# Altium footprint library PCB.PCBLIB: 320 footprints (part 11 of 20)
Each footprint in its own frame and in the unit in brackets; x right, y up, seen from the top. Pads: shape width x height; smd on the part's side, far side on the other; paste and mask are expansions set on the pad; w line width, h text height; cw(c..) or ccw(c..) is an arc to the next point about the centre after c.
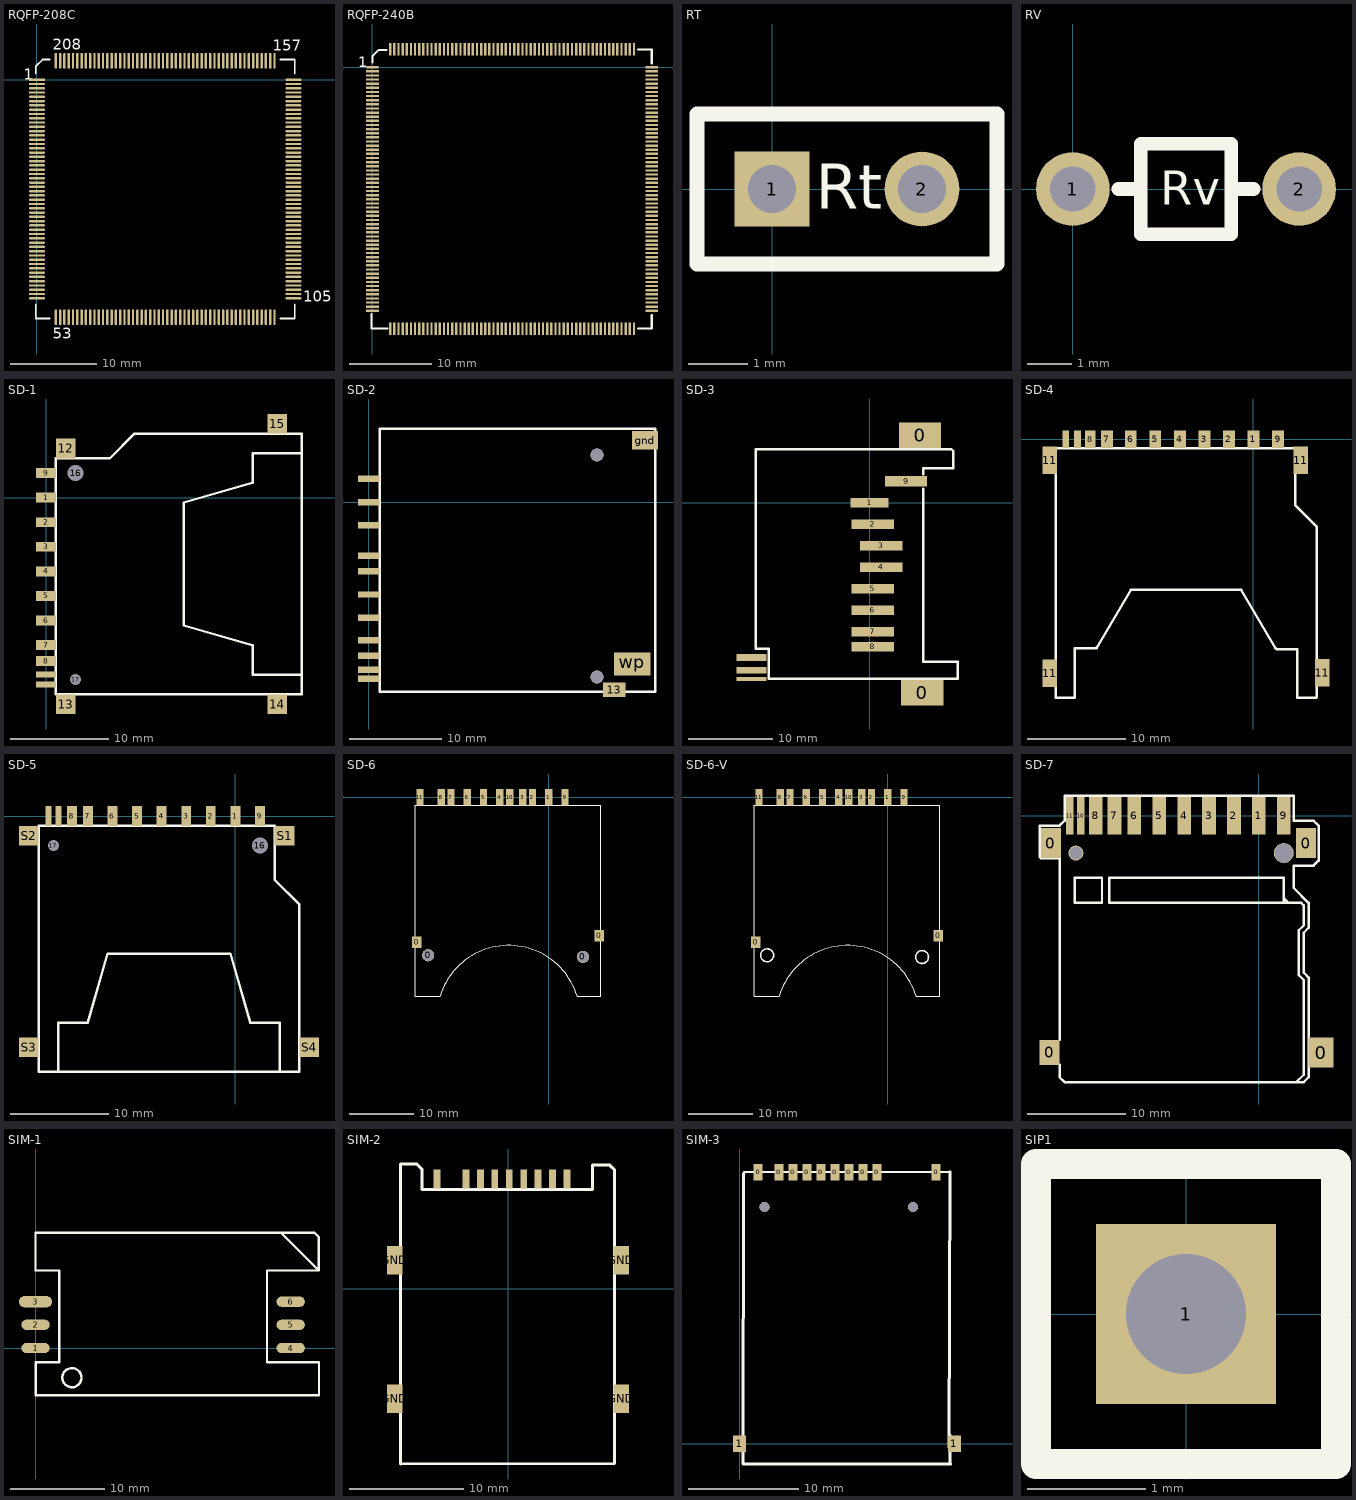
[diagram p10: the footprints below, top view; thin cyan lines are the x and y axes]

## RQFP-208C [mil]
pads (208):
  rect 73x11 smd: 1(0,0)
  oval 73x11 smd: 2(0,-19.68) 3(0,-39.37) 4(0,-59.05) 5(0,-78.74) 6(0,-98.42) 7(0,-118.11) 8(0,-137.79) 9(0,-157.48) 10(0,-177.16) 11(0,-196.85) 12(0,-216.53) 13(0,-236.22) 14(0,-255.91) 15(0,-275.59) 16(0,-295.27) 17(0,-314.96) 18(0,-334.64) 19(0,-354.33) 20(0,-374.01) 21(0,-393.7) 22(0,-413.38) 23(0,-433.07) 24(0,-452.75) 25(0,-472.44) 26(0,-492.12) 27(0,-511.81) 28(0,-531.5) 29(0,-551.18) 30(0,-570.87) 31(0,-590.55) 32(0,-610.24) 33(0,-629.92) 34(0,-649.61) 35(0,-669.29) 36(0,-688.98) 37(0,-708.66) 38(0,-728.35) 39(0,-748.03) 40(0,-767.72) 41(0,-787.4) 42(0,-807.09) 43(0,-826.77) 44(0,-846.46) 45(0,-866.14) 46(0,-885.83) 47(0,-905.51) 48(0,-925.2) 49(0,-944.88) 50(0,-964.57) 51(0,-984.25) 52(0,-1003.93) 105(1177.48,-1003.93) 106(1177.48,-984.25) 107(1177.48,-964.57) 108(1177.48,-944.88) 109(1177.48,-925.2) 110(1177.48,-905.51) 111(1177.48,-885.83) 112(1177.48,-866.14) 113(1177.48,-846.46) 114(1177.48,-826.77) 115(1177.48,-807.09) 116(1177.48,-787.4) 117(1177.48,-767.72) 118(1177.48,-748.03) 119(1177.48,-728.35) 120(1177.48,-708.66) 121(1177.48,-688.98) 122(1177.48,-669.29) 123(1177.48,-649.61) 124(1177.48,-629.92) 125(1177.48,-610.24) 126(1177.48,-590.55) 127(1177.48,-570.87) 128(1177.48,-551.18) 129(1177.48,-531.5) 130(1177.48,-511.81) 131(1177.48,-492.12) 132(1177.48,-472.44) 133(1177.48,-452.75) 134(1177.48,-433.07) 135(1177.48,-413.38) 136(1177.48,-393.7) 137(1177.48,-374.01) 138(1177.48,-354.33) 139(1177.48,-334.64) 140(1177.48,-314.96) 141(1177.48,-295.27) 142(1177.48,-275.59) 143(1177.48,-255.91) 144(1177.48,-236.22) 145(1177.48,-216.53) 146(1177.48,-196.85) 147(1177.48,-177.16) 148(1177.48,-157.48) 149(1177.48,-137.79) 150(1177.48,-118.11) 151(1177.48,-98.42) 152(1177.48,-78.74) 153(1177.48,-59.05) 154(1177.48,-39.37) 155(1177.48,-19.68) 156(1177.48,0)
  oval 11x73 smd: 53(86.77,-1090.71) 54(106.46,-1090.71) 55(126.14,-1090.71) 56(145.83,-1090.71) 57(165.51,-1090.71) 58(185.2,-1090.71) 59(204.88,-1090.71) 60(224.57,-1090.71) 61(244.25,-1090.71) 62(263.94,-1090.71) 63(283.62,-1090.71) 64(303.31,-1090.71) 65(322.99,-1090.71) 66(342.68,-1090.71) 67(362.36,-1090.71) 68(382.05,-1090.71) 69(401.73,-1090.71) 70(421.42,-1090.71) 71(441.1,-1090.71) 72(460.79,-1090.71) 73(480.47,-1090.71) 74(500.16,-1090.71) 75(519.84,-1090.71) 76(539.53,-1090.71) 77(559.21,-1090.71) 78(578.9,-1090.71) 79(598.58,-1090.71) 80(618.27,-1090.71) 81(637.95,-1090.71) 82(657.64,-1090.71) 83(677.32,-1090.71) 84(697.01,-1090.71) 85(716.69,-1090.71) 86(736.38,-1090.71) 87(756.06,-1090.71) 88(775.75,-1090.71) 89(795.43,-1090.71) 90(815.12,-1090.71) 91(834.8,-1090.71) 92(854.49,-1090.71) 93(874.17,-1090.71) 94(893.86,-1090.71) 95(913.54,-1090.71) 96(933.23,-1090.71) 97(952.91,-1090.71) 98(972.6,-1090.71) 99(992.28,-1090.71) 100(1011.97,-1090.71) 101(1031.65,-1090.71) 102(1051.34,-1090.71) 103(1071.02,-1090.71) 104(1090.71,-1090.71) 157(1090.71,86.77) 158(1071.02,86.77) 159(1051.34,86.77) 160(1031.65,86.77) 161(1011.97,86.77) 162(992.28,86.77) 163(972.6,86.77) 164(952.91,86.77) 165(933.23,86.77) 166(913.54,86.77) 167(893.86,86.77) 168(874.17,86.77) 169(854.49,86.77) 170(834.8,86.77) 171(815.12,86.77) 172(795.43,86.77) 173(775.75,86.77) 174(756.06,86.77) 175(736.38,86.77) 176(716.69,86.77) 177(697.01,86.77) 178(677.32,86.77) 179(657.64,86.77) 180(637.95,86.77) 181(618.27,86.77) 182(598.58,86.77) 183(578.9,86.77) 184(559.21,86.77) 185(539.53,86.77) 186(519.84,86.77) 187(500.16,86.77) 188(480.47,86.77) 189(460.79,86.77) 190(441.1,86.77) 191(421.42,86.77) 192(401.73,86.77) 193(382.05,86.77) 194(362.36,86.77) 195(342.68,86.77) 196(322.99,86.77) 197(303.31,86.77) 198(283.62,86.77) 199(263.94,86.77) 200(244.25,86.77) 201(224.57,86.77) 202(204.88,86.77) 203(185.2,86.77) 204(165.51,86.77) 205(145.83,86.77) 206(126.14,86.77) 207(106.46,86.77) 208(86.77,86.77)
TopOverlay:
  lines w7.87: -5.75,-1031.49 -5.75,-1096.45 59.21,-1096.45 ; -5.75,27.56 -5.75,61.02 25.75,92.52 59.21,92.52 ; 1118.27,-1096.45 1183.23,-1096.45 1183.23,-1031.49 ; 1118.27,92.52 1183.23,92.52 1183.23,27.56
  text "208" at 71.77,136.77 h50
  text "157" at 1081.77,131.77 h50
  text "105" at 1222.48,-1020 h50
  text "53" at 71.77,-1190.71 h50
  text "1" at -60,0 h50

## RQFP-240B [mil]
pads (240):
  oval 60x11 smd: 1(0,0)
  rect 60x11 smd: 2(0,-19.68) 3(0,-39.37) 4(0,-59.05) 5(0,-78.74) 6(0,-98.42) 7(0,-118.11) 8(0,-137.79) 9(0,-157.48) 10(0,-177.16) 11(0,-196.85) 12(0,-216.53) 13(0,-236.22) 14(0,-255.9) 15(0,-275.59) 16(0,-295.27) 17(0,-314.96) 18(0,-334.64) 19(0,-354.33) 20(0,-374.01) 21(0,-393.7) 22(0,-413.38) 23(0,-433.07) 24(0,-452.75) 25(0,-472.44) 26(0,-492.12) 27(0,-511.81) 28(0,-531.5) 29(0,-551.18) 30(0,-570.87) 31(0,-590.55) 32(0,-610.23) 33(0,-629.92) 34(0,-649.6) 35(0,-669.29) 36(0,-688.97) 37(0,-708.66) 38(0,-728.34) 39(0,-748.03) 40(0,-767.71) 41(0,-787.4) 42(0,-807.08) 43(0,-826.77) 44(0,-846.46) 45(0,-866.14) 46(0,-885.83) 47(0,-905.51) 48(0,-925.2) 49(0,-944.88) 50(0,-964.57) 51(0,-984.25) 52(0,-1003.93) 53(0,-1023.62) 54(0,-1043.31) 55(0,-1062.99) 56(0,-1082.67) 57(0,-1102.36) 58(0,-1122.04) 59(0,-1141.73) 60(0,-1161.41) 121(1331.02,-1161.41) 122(1331.02,-1141.73) 123(1331.02,-1122.04) 124(1331.02,-1102.36) 125(1331.02,-1082.67) 126(1331.02,-1062.99) 127(1331.02,-1043.31) 128(1331.02,-1023.62) 129(1331.02,-1003.93) 130(1331.02,-984.25) 131(1331.02,-964.57) 132(1331.02,-944.88) 133(1331.02,-925.2) 134(1331.02,-905.51) 135(1331.02,-885.83) 136(1331.02,-866.14) 137(1331.02,-846.46) 138(1331.02,-826.77) 139(1331.02,-807.08) 140(1331.02,-787.4) 141(1331.02,-767.71) 142(1331.02,-748.03) 143(1331.02,-728.34) 144(1331.02,-708.66) 145(1331.02,-688.97) 146(1331.02,-669.29) 147(1331.02,-649.6) 148(1331.02,-629.92) 149(1331.02,-610.23) 150(1331.02,-590.55) 151(1331.02,-570.87) 152(1331.02,-551.18) 153(1331.02,-531.5) 154(1331.02,-511.81) 155(1331.02,-492.12) 156(1331.02,-472.44) 157(1331.02,-452.75) 158(1331.02,-433.07) 159(1331.02,-413.38) 160(1331.02,-393.7) 161(1331.02,-374.01) 162(1331.02,-354.33) 163(1331.02,-334.64) 164(1331.02,-314.96) 165(1331.02,-295.27) 166(1331.02,-275.59) 167(1331.02,-255.9) 168(1331.02,-236.22) 169(1331.02,-216.53) 170(1331.02,-196.85) 171(1331.02,-177.16) 172(1331.02,-157.48) 173(1331.02,-137.79) 174(1331.02,-118.11) 175(1331.02,-98.42) 176(1331.02,-78.74) 177(1331.02,-59.05) 178(1331.02,-39.37) 179(1331.02,-19.68) 180(1331.02,0)
  rect 11x60 smd: 61(84.8,-1246.22) 62(104.49,-1246.22) 63(124.17,-1246.22) 64(143.86,-1246.22) 65(163.54,-1246.22) 66(183.23,-1246.22) 67(202.91,-1246.22) 68(222.6,-1246.22) 69(242.28,-1246.22) 70(261.97,-1246.22) 71(281.65,-1246.22) 72(301.34,-1246.22) 73(321.02,-1246.22) 74(340.71,-1246.22) 75(360.39,-1246.22) 76(380.08,-1246.22) 77(399.76,-1246.22) 78(419.45,-1246.22) 79(439.13,-1246.22) 80(458.82,-1246.22) 81(478.5,-1246.22) 82(498.19,-1246.22) 83(517.87,-1246.22) 84(537.56,-1246.22) 85(557.24,-1246.22) 86(576.93,-1246.22) 87(596.61,-1246.22) 88(616.3,-1246.22) 89(635.98,-1246.22) 90(655.67,-1246.22) 91(675.35,-1246.22) 92(695.04,-1246.22) 93(714.72,-1246.22) 94(734.41,-1246.22) 95(754.09,-1246.22) 96(773.78,-1246.22) 97(793.46,-1246.22) 98(813.15,-1246.22) 99(832.83,-1246.22) 100(852.52,-1246.22) 101(872.2,-1246.22) 102(891.89,-1246.22) 103(911.57,-1246.22) 104(931.26,-1246.22) 105(950.94,-1246.22) 106(970.63,-1246.22) 107(990.31,-1246.22) 108(1010,-1246.22) 109(1029.68,-1246.22) 110(1049.37,-1246.22) 111(1069.05,-1246.22) 112(1088.74,-1246.22) 113(1108.42,-1246.22) 114(1128.11,-1246.22) 115(1147.79,-1246.22) 116(1167.48,-1246.22) 117(1187.16,-1246.22) 118(1206.85,-1246.22) 119(1226.53,-1246.22) 120(1246.22,-1246.22) 181(1246.22,84.8) 182(1226.53,84.8) 183(1206.85,84.8) 184(1187.16,84.8) 185(1167.48,84.8) 186(1147.79,84.8) 187(1128.11,84.8) 188(1108.42,84.8) 189(1088.74,84.8) 190(1069.05,84.8) 191(1049.37,84.8) 192(1029.68,84.8) 193(1010,84.8) 194(990.31,84.8) 195(970.63,84.8) 196(950.94,84.8) 197(931.26,84.8) 198(911.57,84.8) 199(891.89,84.8) 200(872.2,84.8) 201(852.52,84.8) 202(832.83,84.8) 203(813.15,84.8) 204(793.46,84.8) 205(773.78,84.8) 206(754.09,84.8) 207(734.41,84.8) 208(714.72,84.8) 209(695.04,84.8) 210(675.35,84.8) 211(655.67,84.8) 212(635.98,84.8) 213(616.3,84.8) 214(596.61,84.8) 215(576.93,84.8) 216(557.24,84.8) 217(537.56,84.8) 218(517.87,84.8) 219(498.19,84.8) 220(478.5,84.8) 221(458.82,84.8) 222(439.13,84.8) 223(419.45,84.8) 224(399.76,84.8) 225(380.08,84.8) 226(360.39,84.8) 227(340.71,84.8) 228(321.02,84.8) 229(301.34,84.8) 230(281.65,84.8) 231(261.97,84.8) 232(242.28,84.8) 233(222.6,84.8) 234(202.91,84.8) 235(183.23,84.8) 236(163.54,84.8) 237(143.86,84.8) 238(124.17,84.8) 239(104.49,84.8) 240(84.8,84.8)
TopOverlay:
  lines w10: -3.98,-1176.41 -3.98,-1246.41 71.02,-1246.41 ; 1.02,23.59 1.02,53.59 30.02,82.59 66.02,82.59 ; 1266.02,-1246.41 1331.02,-1246.41 1331.02,-1181.41 ; 1266.02,83.59 1331.02,83.59 1331.02,18.59
  text "1" at -68.98,-1.41 h50

## RT [mil]
pads (2):
  rect 50x50 hole 32: 1(0,0)
  round 50 hole 32: 2(100,0)
TopOverlay:
  lines w10: -50,-50 150,-50 150,50 -50,50 -50,-50
  text "Rt" at 29,-13 h30

## RV [mil]
pads (2):
  round 65 hole 40: 1(0,0) 2(200,0)
TopOverlay:
  lines w12: 40,0 60,0 ; 140,0 160,0 ; 60,-40 140,-40 140,40 60,40 60,-40
  text "Rv" at 77.18,-13.82 h30

## SD-1 [mm]
pads (17):
  rect 2x1 smd: 1(0,0) 2(0,-2.5) 3(0,-5) 4(0,-7.5) 5(0,-10) 6(0,-12.5) 7(0,-15) 8(0,-16.625) 9(0,2.5)
  rect 2x0.6 smd: 10(0,-19) 11(0,-18)
  rect 2x2 smd: 12(2,5) 13(2,-21) 14(23.5,-21) 15(23.5,7.5)
  round 1.5 hole 1.6: 16(3,2.5)
  round 1 hole 1.1: 17(3,-18.5)
TopOverlay:
  lines w0.254: 26,-18 21,-18 21,-15 14,-13 14,-0.5 21,1.5 21,4.5 26,4.5 ; 1,-20 1,4 6.5,4 9,6.5 26,6.5 26,-20 1,-20

## SD-2 [mm]
pads (14):
  rect 2.35x0.7 smd: 1(0,0) 2(0,-2.5) 3(0,-5.8) 4(0,-7.5) 5(0,-10) 6(0,-12.5) 7(0,-14.93) 8(0,-16.62) 9(0,2.5) cd(0,-18.12) com(0,-19.12)
  rect 2.4x1.6 smd: 13(26.53,-20.3)
  rect 2.8x2 smd: gnd(29.87,6.7)
  rect 3.95x2.5 smd: wp(28.5,-17.5)
via 24.67,5.1 diameter 1.4 hole 1.4
via 24.67,-18.9 diameter 1.4 hole 1.4
TopOverlay:
  lines w0.254: 1.175,-20.52 30.98,-20.52 30.98,7.92 1.175,7.92 1.175,-20.52

## SD-3 [mil]
pads (14):
  rect 196.85x118.11 smd: 0(235,314.99) 0(245,-885.01)
  rect 177.16x45 smd: 1(0,0)
  rect 196.85x45 smd: 2(15,-100) 3(55,-200) 4(55,-300) 5(15,-400) 6(15,-500) 7(15,-600) 8(15,-670)
  rect 196.85x50 smd: 9(170,100)
  rect 140x31.5 smd: 10(-550.02,-720.02) 11(-550.02,-780.02)
  rect 140x19.68 smd: 12(-550.02,-820.02)
TopOverlay:
  lines w11.81: 149.98,-820.02 409.98,-820.02 409.98,-740.02 249.98,-740.02 249.98,64.94 ; 169.98,-820.02 -470.02,-820.02 -470.02,-680.02 -530.02,-680.02 -530.02,249.98 169.98,249.98 379.98,249.98 389.98,239.98 389.98,159.98 249.98,159.98 249.98,131.91

## SD-4 [mm]
pads (15):
  rect 1.2x1.8 smd: 1(0,0) 2(-2.489,0) 3(-4.983,-0.009) 4(-7.483,-0.009) 5(-9.983,-0.009) 6(-12.483,-0.009) 7(-14.908,-0.009) 9(2.517,-0.009)
  rect 1.1x1.8 smd: 8(-16.612,0)
  rect 0.7x1.8 smd: 10(-17.908,-0.009) 12(-19.101,0)
  rect 1.5x2.8 smd: 11(-20.726,-23.834) 11(-20.726,-2.143) 11(4.826,-2.143) 11(7.01,-23.784)
TopOverlay:
  lines w0.254: -18.158,-21.3 -18.158,-26.3 -20.131,-26.3 -20.131,-0.914 -20.117,-0.9 4.242,-0.9 4.242,-6.71 6.431,-8.899 6.442,-8.899 6.442,-26.273 6.415,-26.3 4.442,-26.3 4.442,-21.402 2.4,-21.402 2.242,-21.244 ; -18.107,-21.294 -16.065,-21.294 -15.907,-21.136 ; -15.958,-21.294 -12.446,-15.3 ; -12.458,-15.3 -1.258,-15.3 2.242,-21.294
MultiLayer:
  circle w0.254: c2.642,-3.26 r0.82
  circle w0.254: c-18.39,-3.3 r0.58

## SD-5 [mm]
pads (17):
  rect 1x2 smd: 1(0,0) 2(-2.5,0) 3(-5,0) 4(-7.5,0) 5(-10,0) 6(-12.5,0) 7(-15,0) 8(-16.625,0) 9(2.5,0)
  rect 0.6x2 smd: 10(-19,0) 11(-18,0)
  round 1.5 hole 1.6: 16(2.5,-3)
  round 1 hole 1.1: 17(-18.5,-3)
  rect 2x2 smd: S1(5,-2) S2(-21,-2) S3(-21,-23.5) S4(7.5,-23.5)
TopOverlay:
  lines w0.254: -18,-26 -18,-21 -15,-21 -13,-14 -0.5,-14 1.5,-21 4.5,-21 4.5,-26 ; -20,-26 -20,-1 4,-1 4,-6.5 6.5,-9 6.5,-26 -20,-26

## SD-6 [mil]
pads (15):
  rect 60x70 smd: 0(-810,-890) 0(310,-850)
  round 75 hole 70: 0(-740,-970) 0(210,-980)
  rect 45x100 smd: 1(0,0) 2(-100,0) 3(-160,0) 4(-300,0) 5(-400,0) 6(-500,0) 7(-600,0) 8(-660,0) 9(100,0) 10(-240,0) 11(-790,0)
TopOverlay:
  lines w5: -666.09,-1220 -820,-1220 -820,-50 320,-50 320,-1220 174.07,-1220 174.07,-1218.73
  lines w6.69: -666.09,-1218.08 cw(c-246.11,-1350.24) 174.07,-1218.73

## SD-6-V [mil]
pads (13):
  rect 60x70 smd: 0(-810,-890) 0(310,-850)
  rect 45x100 smd: 1(0,0) 2(-100,0) 3(-160,0) 4(-300,0) 5(-400,0) 6(-500,0) 7(-600,0) 8(-660,0) 9(100,0) 10(-240,0) 11(-790,0)
TopOverlay:
  circle w10: c-740,-970 r39.62
  circle w10: c210.38,-981 r39.62
  lines w5: -666.09,-1220 -820,-1220 -820,-50 320,-50 320,-1220 174.07,-1220 174.07,-1218.73
  lines w6.69: -666.09,-1218.08 cw(c-246.11,-1350.24) 174.07,-1218.73

## SD-7 [mil]
pads (17):
  rect 80x100 smd: 0(-840,-950)
  rect 80x120 smd: 0(-835,-110) 0(190,-110)
  rect 100x120 smd: 0(249.63,-950.84)
  rect 55x150 smd: 1(0,0) 2(-100,0) 3(-200,0) 4(-300,0) 5(-400,0) 6(-500,0) 7(-580,0) 8(-655,0) 9(100,0)
  rect 30x150 smd: 10(-715,0) 11(-760,0)
  round 60 hole 52: ""(-735,-150)
  round 80 hole 75: ""(100,-150)
TopOverlay:
  lines w10: -800,-1000 -800,-1050 -780,-1070 -770,-1070 180,-1070 200,-1050 200,-650 180,-630 180,-470 200,-450 200,-440 200,-370 200,-350 140,-290 140,-200 220,-200 240,-180 240,-60 240,-40 220,-20 140,-20 140,80 -780,80 -780,-20 -800,-40 -880,-40 -880,-165 -875,-170 -800,-170 -800,-900 ; -650,-350 -630,-350 -630,-250 -740,-250 -740,-350 -640,-350 ; 100,-330 120,-350 ; 150,-1070 180,-1040 180,-670 180,-660 160,-640 160,-460 180,-440 180,-360 170,-350 100,-350 ; 100,-350 100,-340 100,-250 -600,-250 -600,-350 100,-350

## SIM-1 [mm]
pads (6):
  oval 3x1.1 smd: 1(0,0) 2(0,2.45) 4(27,0) 5(27,2.45) 6(27,4.9)
  oval 3.5x1.2 smd: 3(0,4.9)
TopOverlay:
  circle w0.254: c3.848,-3.138 r1.016
  lines w0.254: 0.005,-4.98 0.005,-1.5 2.5,-1.5 2.5,8.185 ; 0.025,-5 30,-5 ; 2.5,8.2 0.008,8.2 0,8.208 0,12.2 29.511,12.2 29.967,11.744 29.967,8.2 ; 24.5,-1.5 24.5,8.2 29.967,8.2 ; 24.505,-1.5 28.423,-1.5 ; 25.967,12.2 29.967,8.2 ; 28.042,-1.5 29.995,-1.5 29.995,-4.995

## SIM-2 [mm]
pads (13):
  rect 0.6x1.65 smd: 0(-6.25,9.662) 0(-3.7,9.662) 0(-2.43,9.662) 0(-1.16,9.662) 0(0.11,9.662) 0(1.38,9.662) 0(2.65,9.662) 0(3.92,9.662) 0(5.19,9.662)
  rect 1.35x2.5 smd: GND(-9.95,-9.662) GND(-9.95,2.538) GND(9.95,-9.662) GND(9.95,2.537)
TopOverlay:
  lines w0.254: -9.44,-15.382 9.356,-15.331 9.356,10.475 8.949,10.882 7.425,10.882 7.425,8.748 -7.561,8.748 -7.561,10.526 -8.018,10.983 -9.186,10.983 -9.44,10.983 -9.44,-15.382

## SIM-3 [mm]
pads (12):
  rect 0.8x1.5 smd: 0(1.68,24.65) 0(3.58,24.65) 0(4.85,24.65) 0(6.12,24.65) 0(7.39,24.65) 0(8.66,24.65) 0(9.93,24.65) 0(11.2,24.65) 0(12.47,24.65) 0(17.83,24.65)
  rect 1.2x1.5 smd: 1(0,0) 1(19.5,0)
via 15.75,21.5 diameter 0.9 hole 0.9
via 2.25,21.5 diameter 0.9 hole 0.9
TopOverlay:
  lines w0.254: 17.528,24.65 19.103,24.7 ; 19.001,-0.293 19.103,24.7 ; 19.103,0.824 19.103,-1.766 19.154,-1.817 18.392,-1.817 0.307,-1.817 0.358,24.548 0.459,24.65 19.103,24.7

## SIP1 [mil]
pads (1):
  rect 60x60 hole 40: 1(0,0)
TopOverlay:
  lines w10: -50,-50 -50,50 50,50 50,-50 -50,-50